# Altium schematic symbol library LM211.SchLib: 1 symbol
Pins are listed as number, name and electrical type; pins without a type are passive.

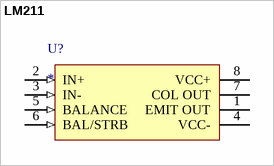
[diagram p0: symbol LM211]

## LM211
designator U?
pins: 1 EMIT OUT, 2 IN+ (in), 3 IN- (in), 4 VCC- (power), 5 BALANCE (in), 6 BAL/STRB (in), 7 COL OUT, 8 VCC+ (power)